# Altium footprint library RESC_0805_M2012.PcbLib: 1 footprints
Each footprint in its own frame and in the unit in brackets; x right, y up, seen from the top. Pads: shape width x height; smd on the part's side, far side on the other; paste and mask are expansions set on the pad; w line width, h text height; cw(c..) or ccw(c..) is an arc to the next point about the centre after c.
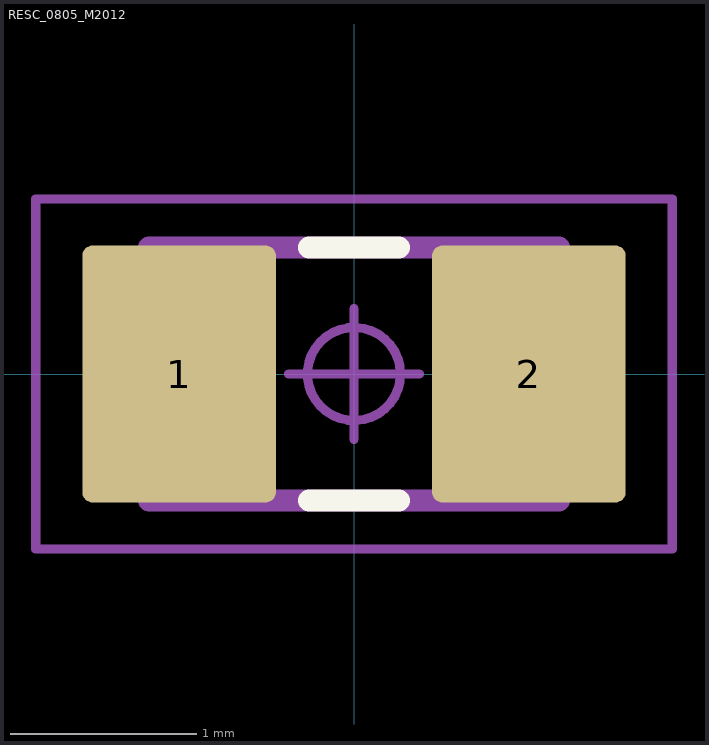
[diagram p0: the footprint, top view; thin cyan lines are the x and y axes]

## RESC_0805_M2012 [mm] "Resistor, Chip; 2.00 mm L X 1.25 mm W X 0.70 mm H body"
pads (2):
  rrect10% 1.04x1.38 smd: 1(-0.94,0) 2(0.94,0)
Top Overlay:
  lines w0.12: -0.24,-0.68 0.24,-0.68 ; -0.24,0.68 0.24,0.68
Mechanical 11:
  lines w0.12: -1.1,-0.68 -1.1,0.68 1.1,0.68 1.1,-0.68 -1.1,-0.68
  text ".Designator" at -1.821,-0.223 h1
Mechanical 15:
  circle w0.05: c0,0 r0.25
  lines w0.05: -0.35,0 0.35,0 ; 0,-0.35 0,0.35 ; -1.71,-0.94 -1.71,0.94 1.71,0.94 1.71,-0.94 -1.71,-0.94
3D body "RESC_0805_M2012.STEP": height 0.7, standoff 0, extent -1.1,-0.675 1.1,0.675